# EAGLE library part IRF8313 (library led-stuff)
Dual N-Channel HEXFET® Power MOSFET Applications Load Switch DC/DC Converters Benefits Low Gate Charge and Low RDS(on) Fully Characterized Avalanche Voltage and Current 20V VGS Max. Gate Rating 100% Tested for RG Lead-Free (Qualified to 260°C Reflow) RoHS Compliant (Halogen Free) RDS(ON) 12.5mΩ @VGS = 10V 18.6mΩ @VGS = 4.5V Maximum Ratings VGS = 20V VDS = 30V IDS = 9.7A
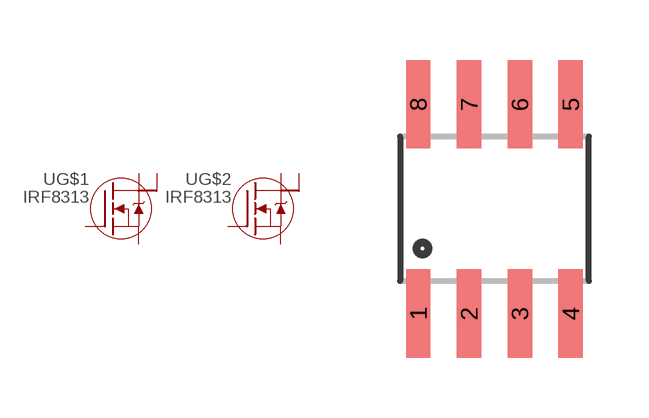
[diagram p8: symbol with the pads of SO08; footprint SO08]

Designator prefix -; gates G$1=N-MOSFET-SO8-DUAL G$2=N-MOSFET-SO8-DUAL

## IRF8313  [SO08]
1  G$2:S
2  G$2:G
3  G$1:S
4  G$1:G
5  G$1:D
6  G$1:D
7  G$2:D
8  G$2:D

## Footprint SO08 (pad centres in mm)
Small Outline Package Fits JEDEC packages (narrow SOIC-8)
smd 0.61 x 2.21: 1 -1.905,-2.616; 2 -0.635,-2.616; 3 0.635,-2.616; 4 1.905,-2.616; 5 1.905,2.616; 6 0.635,2.616; 7 -0.635,2.616; 8 -1.905,2.616